# EAGLE library part ARDUINO_FOOTPRINT (library CEDTv75)
Standard footprint of the Arduino Board.
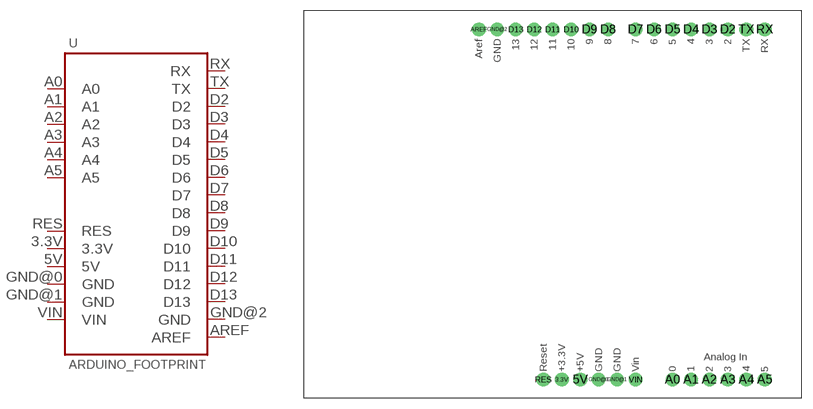
[diagram p29: symbol with the pads of ARDUINO_FOOTPRINT; footprint ARDUINO_FOOTPRINT]

Designator prefix -

## ARDUINO_FOOTPRINT  [ARDUINO_FOOTPRINT]
3.3V  3.3V  pas
5V  5V  pas
A0  A0  pas
A1  A1  pas
A2  A2  pas
A3  A3  pas
A4  A4  pas
A5  A5  pas
AREF  AREF  pas
D2  D2  pas
D3  D3  pas
D4  D4  pas
D5  D5  pas
D6  D6  pas
D7  D7  pas
D8  D8  pas
D9  D9  pas
D10  D10  pas
D11  D11  pas
D12  D12  pas
D13  D13  pas
GND@0  GND  pas
GND@1  GND  pas
GND@2  GND  pas
RES  RES  pas
RX  RX  pas
TX  TX  pas
VIN  VIN  pas

## Footprint ARDUINO_FOOTPRINT (pad centres in mm)
drill 1.016 pad 1.88: 3.3V 35.56,2.54; 5V 38.1,2.54; A0 50.8,2.54; A1 53.34,2.54; A2 55.88,2.54; A3 58.42,2.54; A4 60.96,2.54; A5 63.5,2.54; AREF 24.13,50.8; D2 58.42,50.8; D3 55.88,50.8; D4 53.34,50.8; D5 50.8,50.8; D6 48.26,50.8; D7 45.72,50.8; D8 41.91,50.8; D9 39.37,50.8; D10 36.83,50.8; D11 34.29,50.8; D12 31.75,50.8; D13 29.21,50.8; GND@0 40.64,2.54; GND@1 43.18,2.54; GND@2 26.67,50.8; RES 33.02,2.54; RX 63.5,50.8; TX 60.96,50.8; VIN 45.72,2.54